# EAGLE library part SIMCARDSLOT (library Nick Firmani)
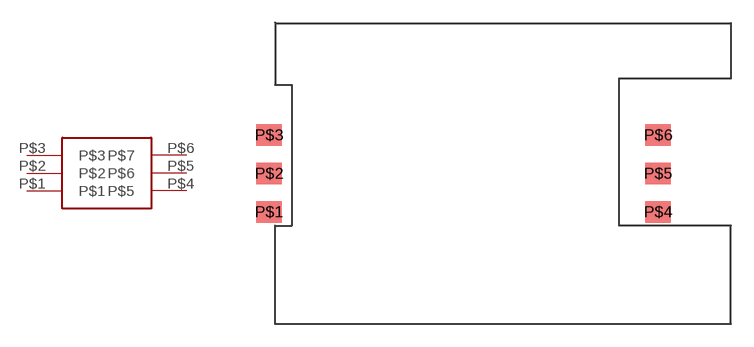
[diagram p7: symbol with the pads of 9162SIMCONN; footprint 9162SIMCONN]

Designator prefix -

## SIMCARDSLOT  [9162SIMCONN]
P$1  P$1
P$2  P$2
P$3  P$3
P$4  P$5
P$5  P$6
P$6  P$7

## Footprint 9162SIMCONN (pad centres in mm)
smd 1.7 x 1.4: P$1 0,0; P$2 0,2.54; P$3 0,5.08; P$4 25.7,0; P$5 25.7,2.54; P$6 25.7,5.08